# EAGLE library part LTM8055 (library LTM8055)
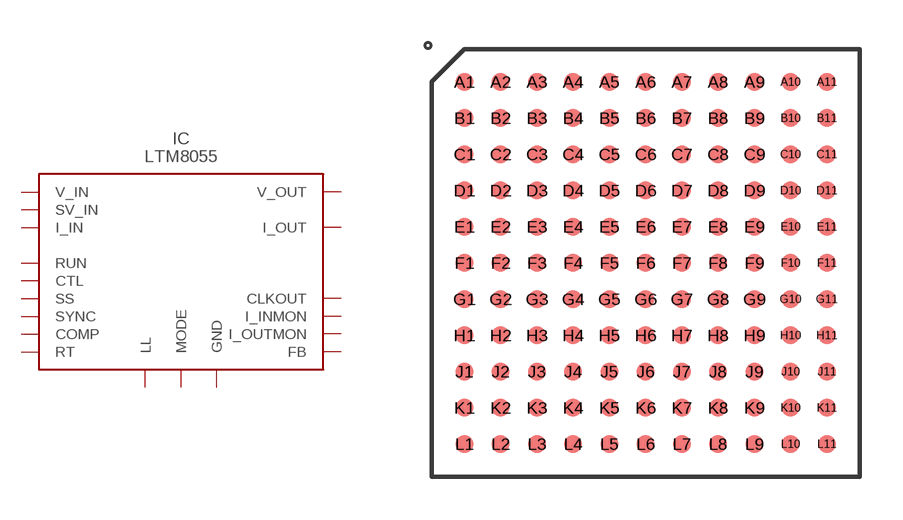
[diagram p0: symbol with the pads of LTM8055; footprint LTM8055]

Designator prefix IC

## LTM8055  [LTM8055]
A1  V_OUT
A2  V_OUT
A3  V_OUT
A4  V_OUT
A5  V_OUT
A6  V_OUT
A7  GND
A8  GND
A9  GND
A10  GND
A11  GND
B1  V_OUT
B2  V_OUT
B3  V_OUT
B4  V_OUT
B5  V_OUT
B6  V_OUT
B7  GND
B8  GND
B9  GND
B10  GND
B11  GND
C1  V_OUT
C2  V_OUT
C3  V_OUT
C4  V_OUT
C5  V_OUT
C6  V_OUT
C7  GND
C8  GND
C9  GND
C10  GND
C11  GND
D1  I_OUT
D2  GND
D3  GND
D4  GND
D5  GND
D6  GND
D7  GND
D8  GND
D9  GND
D10  GND
D11  GND
E1  GND
E2  GND
E3  GND
E4  GND
E5  GND
E6  GND
E7  GND
E8  GND
E9  GND
E10  GND
E11  GND
F1  LL
F2  GND
F3  GND
F4  GND
F5  GND
F6  GND
F7  GND
F8  GND
F9  GND
F10  SV_IN
F11  SV_IN
G1  CLKOUT
G2  MODE
G3  GND
G4  GND
G5  GND
G6  GND
G7  GND
G8  GND
G9  GND
G10  V_IN
G11  V_IN
H1  RT
H2  SYNC
H3  GND
H4  GND
H5  GND
H6  GND
H7  GND
H8  GND
H9  GND
H10  V_IN
H11  V_IN
J1  FB
J2  COMP
J3  GND
J4  GND
J5  GND
J6  GND
J7  GND
J8  GND
J9  GND
J10  V_IN
J11  V_IN
K1  SS
K2  CTL
K3  GND
K4  GND
K5  GND
K6  GND
K7  GND
K8  GND
K9  GND
K10  V_IN
K11  V_IN
L1  GND
L2  I_OUTMON
L3  I_INMON
L4  RUN
L5  GND
L6  GND
L7  GND
L8  GND
L9  I_IN
L10  V_IN
L11  V_IN

## Footprint LTM8055 (pad centres in mm)
smd 0.635 x 0.635: A1 -6.35,6.35; A2 -5.08,6.35; A3 -3.81,6.35; A4 -2.54,6.35; A5 -1.27,6.35; A6 0,6.35; A7 1.27,6.35; A8 2.54,6.35; A9 3.81,6.35; A10 5.08,6.35; A11 6.35,6.35; B1 -6.35,5.08; B2 -5.08,5.08; B3 -3.81,5.08; B4 -2.54,5.08; B5 -1.27,5.08; B6 0,5.08; B7 1.27,5.08; B8 2.54,5.08; B9 3.81,5.08; B10 5.08,5.08; B11 6.35,5.08; C1 -6.35,3.81; C2 -5.08,3.81; C3 -3.81,3.81; C4 -2.54,3.81; C5 -1.27,3.81; C6 0,3.81; C7 1.27,3.81; C8 2.54,3.81; C9 3.81,3.81; C10 5.08,3.81; C11 6.35,3.81; D1 -6.35,2.54; D2 -5.08,2.54; D3 -3.81,2.54; D4 -2.54,2.54; D5 -1.27,2.54; D6 0,2.54; D7 1.27,2.54; D8 2.54,2.54; D9 3.81,2.54; D10 5.08,2.54; D11 6.35,2.54; E1 -6.35,1.27; E2 -5.08,1.27; E3 -3.81,1.27; E4 -2.54,1.27; E5 -1.27,1.27; E6 0,1.27; E7 1.27,1.27; E8 2.54,1.27; E9 3.81,1.27; E10 5.08,1.27; E11 6.35,1.27; F1 -6.35,0; F2 -5.08,0; F3 -3.81,0; F4 -2.54,0; F5 -1.27,0; F6 0,0; F7 1.27,0; F8 2.54,0; F9 3.81,0; F10 5.08,0; F11 6.35,0; G1 -6.35,-1.27; G2 -5.08,-1.27; G3 -3.81,-1.27; G4 -2.54,-1.27; G5 -1.27,-1.27; G6 0,-1.27; G7 1.27,-1.27; G8 2.54,-1.27; G9 3.81,-1.27; G10 5.08,-1.27; G11 6.35,-1.27; H1 -6.35,-2.54; H2 -5.08,-2.54; H3 -3.81,-2.54; H4 -2.54,-2.54; H5 -1.27,-2.54; H6 0,-2.54; H7 1.27,-2.54; H8 2.54,-2.54; H9 3.81,-2.54; H10 5.08,-2.54; H11 6.35,-2.54; J1 -6.35,-3.81; J2 -5.08,-3.81; J3 -3.81,-3.81; J4 -2.54,-3.81; J5 -1.27,-3.81; J6 0,-3.81; J7 1.27,-3.81; J8 2.54,-3.81; J9 3.81,-3.81; J10 5.08,-3.81; J11 6.35,-3.81; K1 -6.35,-5.08; K2 -5.08,-5.08; K3 -3.81,-5.08; K4 -2.54,-5.08; K5 -1.27,-5.08; K6 0,-5.08; K7 1.27,-5.08; K8 2.54,-5.08; K9 3.81,-5.08; K10 5.08,-5.08; K11 6.35,-5.08; L1 -6.35,-6.35; L2 -5.08,-6.35; L3 -3.81,-6.35; L4 -2.54,-6.35; L5 -1.27,-6.35; L6 0,-6.35; L7 1.27,-6.35; L8 2.54,-6.35; L9 3.81,-6.35; L10 5.08,-6.35; L11 6.35,-6.35